# Altium integrated library Oscillator - VCTCXO.IntLib: 14 symbols
Pins are listed as number, name and electrical type; pins without a type are passive.

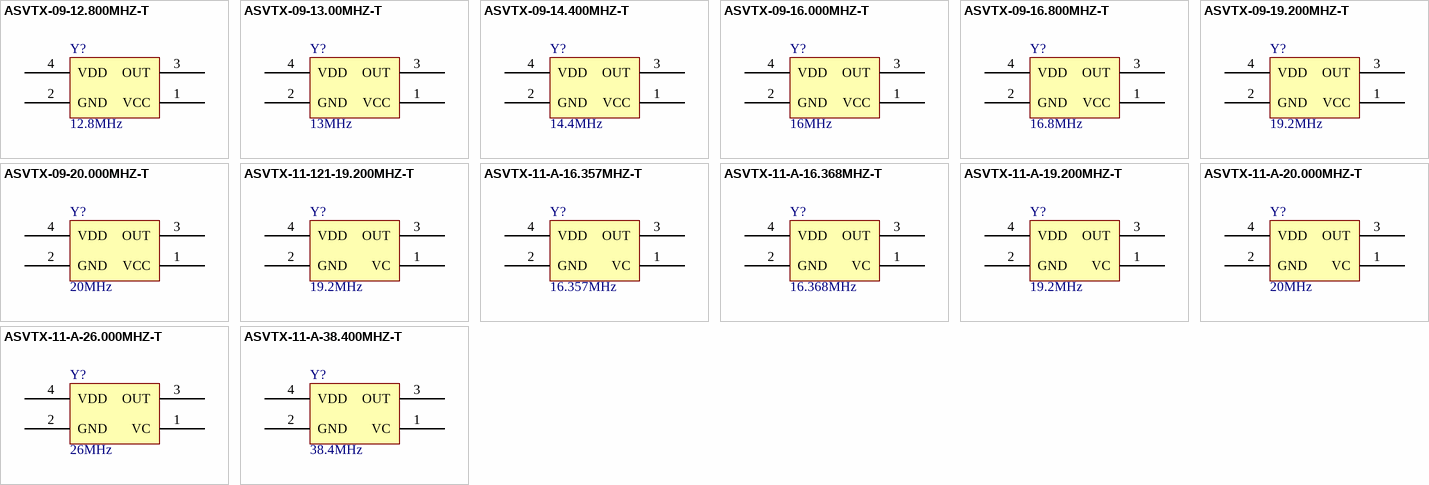
[diagram p0: symbols ASVTX-09-12.800MHZ-T to ASVTX-11-A-38.400MHZ-T]

## ASVTX-09-12.800MHZ-T
designator Y?, comment 12.8MHz
OSC VCTCXO 12.8MHZ CLIP SNWV SMD; Part Number: ASVTX-09-12.800MHZ-T; Manufacturer: Abracon LLC; Frequency Stability: 2.5ppm; PartId: 9114; Supplier 1: Digi-Key; Supplier Part Number 1: 535-9333-2-ND; ComponentLink1Description: Datasheet; ComponentLink1URL: http://www.abracon.com/Oscillators/ASVTX-09.pdf; ComponentLink2Description: Digi-Key Listing; ComponentLink2URL: https://www.digikey.com/product-detail/en/ASVTX-09-12.800MHZ-T/535-9333-2-ND/675528; Price: 2.198; Type: VCTCXO; Device Package: 4-SMD, No Lead (DFN, LCC); Series: ASVTX-09; Frequency: 12.8MHz
footprint Abracon ASVTX-09
pins: 1 VCC, 2 GND, 3 OUT, 4 VDD

## ASVTX-09-13.00MHZ-T
designator Y?, comment 13MHz
OSC VCTCXO 13.000MHZ CL SNWV SMD; Part Number: ASVTX-09-13.00MHZ-T; Manufacturer: Abracon LLC; Frequency Stability: 2.5ppm; PartId: 9113; Supplier 1: Digi-Key; Supplier Part Number 1: 535-9334-2-ND; ComponentLink1Description: Datasheet; ComponentLink1URL: http://www.abracon.com/Oscillators/ASVTX-09.pdf; ComponentLink2Description: Digi-Key Listing; ComponentLink2URL: https://www.digikey.com/product-detail/en/ASVTX-09-13.00MHZ-T/535-9334-2-ND/675529; Price: 2.198; Type: VCTCXO; Device Package: 4-SMD, No Lead (DFN, LCC); Series: ASVTX-09; Frequency: 13MHz
footprint Abracon ASVTX-09
pins: 1 VCC, 2 GND, 3 OUT, 4 VDD

## ASVTX-09-14.400MHZ-T
designator Y?, comment 14.4MHz
OSC VCTCXO 14.4MHZ CL SNWV SMD; Part Number: ASVTX-09-14.400MHZ-T; Manufacturer: Abracon LLC; Frequency Stability: 2.5ppm; PartId: 9119; Supplier 1: Digi-Key; Supplier Part Number 1: 535-9335-2-ND; ComponentLink1Description: Datasheet; ComponentLink1URL: http://www.abracon.com/Oscillators/ASVTX-09.pdf; ComponentLink2Description: Digi-Key Listing; ComponentLink2URL: https://www.digikey.com/product-detail/en/ASVTX-09-14.400MHZ-T/535-9335-2-ND/675530; Price: 2.198; Type: VCTCXO; Device Package: 4-SMD, No Lead (DFN, LCC); Series: ASVTX-09; Frequency: 14.4MHz
footprint Abracon ASVTX-09
pins: 1 VCC, 2 GND, 3 OUT, 4 VDD

## ASVTX-09-16.000MHZ-T
designator Y?, comment 16MHz
OSC VCTCXO 16.000MHZ CL SNWV SMD; Part Number: ASVTX-09-16.000MHZ-T; Manufacturer: Abracon LLC; Frequency Stability: 2.5ppm; PartId: 9115; Supplier 1: Digi-Key; Supplier Part Number 1: 535-9336-2-ND; ComponentLink1Description: Datasheet; ComponentLink1URL: http://www.abracon.com/Oscillators/ASVTX-09.pdf; ComponentLink2Description: Digi-Key Listing; ComponentLink2URL: https://www.digikey.com/product-detail/en/ASVTX-09-16.000MHZ-T/535-9336-2-ND/675531; Price: 2.198; Type: VCTCXO; Device Package: 4-SMD, No Lead (DFN, LCC); Series: ASVTX-09; Frequency: 16MHz
footprint Abracon ASVTX-09
pins: 1 VCC, 2 GND, 3 OUT, 4 VDD

## ASVTX-09-16.800MHZ-T
designator Y?, comment 16.8MHz
OSC VCTCXO 16.8MHZ CLIP SNWV SMD; Part Number: ASVTX-09-16.800MHZ-T; Manufacturer: Abracon LLC; Frequency Stability: 2.5ppm; PartId: 9118; Supplier 1: Digi-Key; Supplier Part Number 1: 535-9337-2-ND; ComponentLink1Description: Datasheet; ComponentLink1URL: http://www.abracon.com/Oscillators/ASVTX-09.pdf; ComponentLink2Description: Digi-Key Listing; ComponentLink2URL: https://www.digikey.com/product-detail/en/ASVTX-09-16.800MHZ-T/535-9337-2-ND/675532; Price: 2.198; Type: VCTCXO; Device Package: 4-SMD, No Lead (DFN, LCC); Series: ASVTX-09; Frequency: 16.8MHz
footprint Abracon ASVTX-09
pins: 1 VCC, 2 GND, 3 OUT, 4 VDD

## ASVTX-09-19.200MHZ-T
designator Y?, comment 19.2MHz
OSC VCTCXO 19.2MHZ CLIP SNWV SMD; Part Number: ASVTX-09-19.200MHZ-T; Manufacturer: Abracon LLC; Frequency Stability: 2.5ppm; PartId: 9117; Supplier 1: Digi-Key; Supplier Part Number 1: 535-9338-2-ND; ComponentLink1Description: Datasheet; ComponentLink1URL: http://www.abracon.com/Oscillators/ASVTX-09.pdf; ComponentLink2Description: Digi-Key Listing; ComponentLink2URL: https://www.digikey.com/product-detail/en/ASVTX-09-19.200MHZ-T/535-9338-2-ND/675533; Price: 2.198; Type: VCTCXO; Device Package: 4-SMD, No Lead (DFN, LCC); Series: ASVTX-09; Frequency: 19.2MHz
footprint Abracon ASVTX-09
pins: 1 VCC, 2 GND, 3 OUT, 4 VDD

## ASVTX-09-20.000MHZ-T
designator Y?, comment 20MHz
OSC VCTCXO 20.000MHZ SNWV SMD; Part Number: ASVTX-09-20.000MHZ-T; Manufacturer: Abracon LLC; Frequency Stability: 2.5ppm; PartId: 9116; Supplier 1: Digi-Key; Supplier Part Number 1: 535-9702-2-ND; ComponentLink1Description: Datasheet; ComponentLink1URL: http://www.abracon.com/Oscillators/ASVTX-09.pdf; ComponentLink2Description: Digi-Key Listing; ComponentLink2URL: https://www.digikey.com/product-detail/en/ASVTX-09-20.000MHZ-T/535-9702-2-ND/1578301; Price: 2.198; Type: VCTCXO; Device Package: 4-SMD, No Lead (DFN, LCC); Series: ASVTX-09; Frequency: 20MHz
footprint Abracon ASVTX-09
pins: 1 VCC, 2 GND, 3 OUT, 4 VDD

## ASVTX-11-121-19.200MHZ-T
designator Y?, comment 19.2MHz
OSC VCTCXO 19.200MHZ CL SNWV SMD; Part Number: ASVTX-11-121-19.200MHZ-T; Manufacturer: Abracon LLC; Frequency Stability: 2ppm; PartId: 9139; Supplier 1: Digi-Key; Supplier Part Number 1: 535-13278-2-ND; ComponentLink1Description: Datasheet; ComponentLink1URL: http://www.abracon.com/Oscillators/ASVTX-11-121.pdf; ComponentLink2Description: Digi-Key Listing; ComponentLink2URL: https://www.digikey.com/product-detail/en/ASVTX-11-121-19.200MHZ-T/535-13278-2-ND/5766058; Price: 0.8702; Type: VCTCXO; Device Package: 4-SMD, No Lead (DFN, LCC); Series: ASVTX-11; Frequency: 19.2MHz
footprint Abracon ASVTX-11
pins: 1 VC, 2 GND, 3 OUT, 4 VDD

## ASVTX-11-A-16.357MHZ-T
designator Y?, comment 16.357MHz
OSC VCTCXO 16.357MHZ CL SNWV SMD; Part Number: ASVTX-11-A-16.357MHZ-T; Manufacturer: Abracon LLC; Frequency Stability: 2.5ppm; PartId: 9140; Supplier 1: Digi-Key; Supplier Part Number 1: 535-9614-2-ND; ComponentLink1Description: Datasheet; ComponentLink1URL: http://www.abracon.com/Oscillators/ASTX11_ASVTX11.pdf; ComponentLink2Description: Digi-Key Listing; ComponentLink2URL: https://www.digikey.com/product-detail/en/ASVTX-11-A-16.357MHZ-T/535-9614-2-ND/1236931; Price: 3.0375; Type: VCTCXO; Device Package: 6-SMD, No Lead (DFN, LCC); Series: ASVTX-11; Frequency: 16.357MHz
footprint Abracon ASVTX-11
pins: 1 VC, 2 GND, 3 OUT, 4 VDD

## ASVTX-11-A-16.368MHZ-T
designator Y?, comment 16.368MHz
OSC VCTCXO 16.368MHZ CL SNWV SMD; Part Number: ASVTX-11-A-16.368MHZ-T; Manufacturer: Abracon LLC; Frequency Stability: 2.5ppm; PartId: 9141; Supplier 1: Digi-Key; Supplier Part Number 1: 535-9615-2-ND; ComponentLink1Description: Datasheet; ComponentLink1URL: http://www.abracon.com/Oscillators/ASTX11_ASVTX11.pdf; ComponentLink2Description: Digi-Key Listing; ComponentLink2URL: https://www.digikey.com/product-detail/en/ASVTX-11-A-16.368MHZ-T/535-9615-2-ND/1236932; Price: 3.0375; Type: VCTCXO; Device Package: 6-SMD, No Lead (DFN, LCC); Series: ASVTX-11; Frequency: 16.368MHz
footprint Abracon ASVTX-11
pins: 1 VC, 2 GND, 3 OUT, 4 VDD

## ASVTX-11-A-19.200MHZ-T
designator Y?, comment 19.2MHz
OSC VCTCXO 19.2MHZ CLIP SNWV SMD; Part Number: ASVTX-11-A-19.200MHZ-T; Manufacturer: Abracon LLC; Frequency Stability: 2.5ppm; PartId: 9138; Supplier 1: Digi-Key; Supplier Part Number 1: 535-9616-2-ND; ComponentLink1Description: Datasheet; ComponentLink1URL: http://www.abracon.com/Oscillators/ASTX11_ASVTX11.pdf; ComponentLink2Description: Digi-Key Listing; ComponentLink2URL: https://www.digikey.com/product-detail/en/ASVTX-11-A-19.200MHZ-T/535-9616-2-ND/1236933; Price: 2.366; Type: VCTCXO; Device Package: 6-SMD, No Lead (DFN, LCC); Series: ASVTX-11; Frequency: 19.2MHz
footprint Abracon ASVTX-11
pins: 1 VC, 2 GND, 3 OUT, 4 VDD

## ASVTX-11-A-20.000MHZ-T
designator Y?, comment 20MHz
OSC VCTCXO 20.000MHZ CL SNWV SMD; Part Number: ASVTX-11-A-20.000MHZ-T; Manufacturer: Abracon LLC; Frequency Stability: 2.5ppm; PartId: 9135; Supplier 1: Digi-Key; Supplier Part Number 1: 535-9617-2-ND; ComponentLink1Description: Datasheet; ComponentLink1URL: http://www.abracon.com/Oscillators/ASTX11_ASVTX11.pdf; ComponentLink2Description: Digi-Key Listing; ComponentLink2URL: https://www.digikey.com/product-detail/en/ASVTX-11-A-20.000MHZ-T/535-9617-2-ND/1236934; Price: 2.366; Type: VCTCXO; Device Package: 6-SMD, No Lead (DFN, LCC); Series: ASVTX-11; Frequency: 20MHz
footprint Abracon ASVTX-11
pins: 1 VC, 2 GND, 3 OUT, 4 VDD

## ASVTX-11-A-26.000MHZ-T
designator Y?, comment 26MHz
OSC VCTCXO 26.000MHZ CL SNWV SMD; Part Number: ASVTX-11-A-26.000MHZ-T; Manufacturer: Abracon LLC; Frequency Stability: 2.5ppm; PartId: 9136; Supplier 1: Digi-Key; Supplier Part Number 1: 535-9619-2-ND; ComponentLink1Description: Datasheet; ComponentLink1URL: http://www.abracon.com/Oscillators/ASTX11_ASVTX11.pdf; ComponentLink2Description: Digi-Key Listing; ComponentLink2URL: https://www.digikey.com/product-detail/en/ASVTX-11-A-26.000MHZ-T/535-9619-2-ND/1236936; Price: 2.366; Type: VCTCXO; Device Package: 6-SMD, No Lead (DFN, LCC); Series: ASVTX-11; Frequency: 26MHz
footprint Abracon ASVTX-11
pins: 1 VC, 2 GND, 3 OUT, 4 VDD

## ASVTX-11-A-38.400MHZ-T
designator Y?, comment 38.4MHz
OSC VCTCXO 38.4MHZ CLIP SNWV SMD; Part Number: ASVTX-11-A-38.400MHZ-T; Manufacturer: Abracon LLC; Frequency Stability: 2.5ppm; PartId: 9137; Supplier 1: Digi-Key; Supplier Part Number 1: 535-9621-2-ND; ComponentLink1Description: Datasheet; ComponentLink1URL: http://www.abracon.com/Oscillators/ASTX11_ASVTX11.pdf; ComponentLink2Description: Digi-Key Listing; ComponentLink2URL: https://www.digikey.com/product-detail/en/ASVTX-11-A-38.400MHZ-T/535-9621-2-ND/1236938; Price: 2.366; Type: VCTCXO; Device Package: 6-SMD, No Lead (DFN, LCC); Series: ASVTX-11; Frequency: 38.4MHz
footprint Abracon ASVTX-11
pins: 1 VC, 2 GND, 3 OUT, 4 VDD